# Altium integrated library Altera APEX 20KE.IntLib: 235 symbols (part 28 of 49)
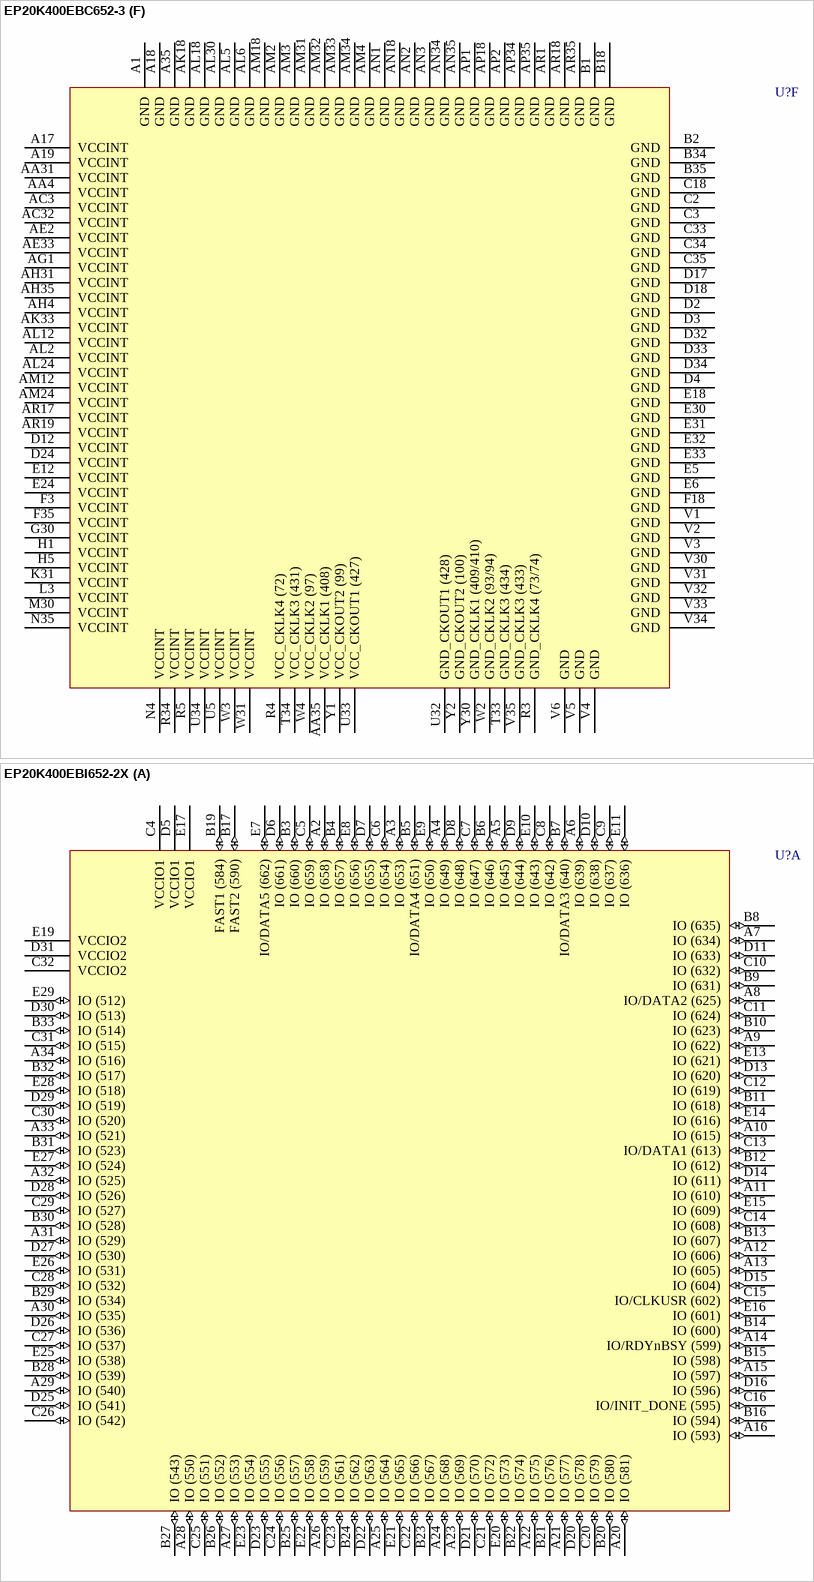
[diagram p426: symbols EP20K400EBC652-3 to EP20K400EBI652-2X]

## EP20K400EBC652-3
designator U?
APEX 20K400E PLD, 652-Pin BGA, Commercial Grade, Speed Grade 3; Published: 17-Jul-2002; LatestRevisionDate: 13-Apr-2006; LatestRevisionNote: IPC-7351 Footprint Added.; DatasheetVersion: Mar-2004; PackageVersion: ver14.1, Oct-2005; PackageReference: BGA652; Publisher: Altium Limited; PackageDescription: 652-Ball Ball Grid Array (BGA652); Code_JEDEC: MO-192-BAW-1; ComponentLink1Description: Manufacturer Link; ComponentLink1URL: http://www.altera.com/products/devices/apex/apx-index.html; ComponentLink2Description: Datasheet; ComponentLink2URL: http://www.altera.com/literature/ds/apex.pdf
footprint BGA652 (BGA, 652-Leads, Body 45x45mm, Pitch 1.27mm)
3D model EP20K400E-BGA652TD (652-Ball Ball Grid Array (BGA652))
part A pins: A2 IO (658) (io), A3 IO (653) (io), A4 IO (649) (io), A5 IO (645) (io), A6 IO (639) (io), A7 IO (634) (io), A8 IO/DATA2 (625) (io), A9 IO (622) (io), A10 IO (615) (io), A11 IO (610) (io), A12 IO (606) (io), A13 IO (605) (io), A14 IO/RDYnBSY (599) (io), A15 IO (597) (io), A16 IO (593) (io), A20 IO (581) (io), A21 IO (577) (io), A22 IO (575) (io), A23 IO (569) (io), A24 IO (568) (io), A25 IO (564) (io), A26 IO (559) (io), A27 IO (553) (io), A28 IO (550) (io), A29 IO (540) (io), A30 IO (535) (io), A31 IO (529) (io), A32 IO (525) (io), A33 IO (521) (io), A34 IO (516) (io), B3 IO (660) (io), B4 IO (657) (io), B5 IO/DATA4 (651) (io), B6 IO (646) (io), B7 IO/DATA3 (640) (io), B8 IO (635) (io), B9 IO (631) (io), B10 IO (623) (io), B11 IO (618) (io), B12 IO (612) (io), B13 IO (607) (io), B14 IO (600) (io), B15 IO (598) (io), B16 IO (594) (io), B17 FAST2 (590) (io), B19 FAST1 (584) (io), B20 IO (580) (io), B21 IO (576) (io), B22 IO (574) (io), B23 IO (567) (io), B24 IO (562) (io), B25 IO (557) (io), B26 IO (552) (io), B27 IO (543) (io), B28 IO (539) (io), B29 IO (534) (io), B30 IO (528) (io), B31 IO (523) (io), B32 IO (517) (io), B33 IO (514) (io), C4 VCCIO1 (power), C5 IO (659) (io), C6 IO (654) (io), C7 IO (647) (io), C8 IO (642) (io), C9 IO (637) (io), C10 IO (632) (io), C11 IO (624) (io), C12 IO (619) (io), C13 IO/DATA1 (613) (io), C14 IO (608) (io), C15 IO/CLKUSR (602) (io), C16 IO/INIT_DONE (595) (io), C20 IO (579) (io), C21 IO (572) (io), C22 IO (566) (io), C23 IO (561) (io), C24 IO (556) (io), C25 IO (551) (io), C26 IO (542) (io), C27 IO (537) (io), C28 IO (532) (io), C29 IO (527) (io), C30 IO (520) (io), C31 IO (515) (io), C32 VCCIO2 (power), D5 VCCIO1 (power), D6 IO (661) (io), D7 IO (655) (io), D8 IO (648) (io), D9 IO (644) (io), D10 IO (638) (io), D11 IO (633) (io), D13 IO (620) (io), D14 IO (611) (io), D15 IO (604) (io), D16 IO (596) (io), D20 IO (578) (io), D21 IO (570) (io), D22 IO (563) (io), D23 IO (555) (io), D25 IO (541) (io), D26 IO (536) (io), D27 IO (530) (io), D28 IO (526) (io), D29 IO (519) (io), D30 IO (513) (io), D31 VCCIO2 (power), E7 IO/DATA5 (662) (io), E8 IO (656) (io), E9 IO (650) (io), E10 IO (643) (io), E11 IO (636) (io), E13 IO (621) (io), E14 IO (616) (io), E15 IO (609) (io), E16 IO (601) (io), E17 VCCIO1 (power), E19 VCCIO2 (power), E20 IO (573) (io), E21 IO (565) (io), E22 IO (558) (io), E23 IO (554) (io), E25 IO (538) (io), E26 IO (531) (io), E27 IO (524) (io), E28 IO (518) (io), E29 IO (512) (io)
part B pins: AA30 IO/LOCK1 (402) (io), AA32 IO (405) (io), AA33 IO (406) (io), AA34 IO (407) (io), AB30 IO (395) (io), AB31 IO (396) (io), AB32 IO (398) (io), AB33 IO (399) (io), AB34 IO (400) (io), AB35 IO (401) (io), AC30 IO (388) (io), AC31 IO (389) (io), AC33 IO (392) (io), AC34 IO (393) (io), AC35 IO (394) (io), AD30 IO (381) (io), AD31 IO (382) (io), AD32 IO (383) (io), AD33 IO (385) (io), AD34 IO (386) (io), AD35 IO (387) (io), AE30 IO (374) (io), AE31 IO (375) (io), AE32 IO (376) (io), AE34 IO (379) (io), AE35 IO (380) (io), AF30 IO (367) (io), AF31 IO (368) (io), AF32 IO (369) (io), AF33 IO (370) (io), AF34 IO (372) (io), AF35 IO (373) (io), AG30 IO (359) (io), AG31 IO (360) (io), AG32 IO (361) (io), AG33 IO (362) (io), AG34 IO (363) (io), AG35 IO (366) (io), AH30 IO (350) (io), AH32 IO (353) (io), AH33 IO (354) (io), AH34 IO (356) (io), AJ30 IO (342) (io), AJ31 IO (343) (io), AJ32 IO (344) (io), AJ33 IO (346) (io), AJ34 IO (349) (io), AJ35 IO (357) (io), AK30 IO (335) (io), AK31 IO (336) (io), AK32 IO (337) (io), AK34 IO (347) (io), AK35 IO (355) (io), AL31 VCCIO4 (power), AL32 VCCIO4 (power), AL33 IO (334) (io), AL34 IO (340) (io), AL35 IO (348) (io), AM35 IO (341) (io), D35 IO (506) (io), E34 IO (507) (io), E35 IO (499) (io), F30 VCCIO3 (power), F31 VCCIO3 (power), F32 IO (509) (io), F33 IO (508) (io), F34 IO (500) (io), G31 IO (503) (io), G32 IO (502) (io), G33 IO (501) (io), G34 IO (497) (io), G35 IO/LVDSRX16n (489) (io), H30 IO (496) (io), H31 IO (495) (io), H32 IO (494) (io), H33 IO (493) (io), H34 IO/LVDSRX16p (490) (io), H35 IO (482) (io), J30 IO (488) (io), J31 IO/LVDSRX15n (487) (io), J32 IO/LVDSRX15p (486) (io), J33 IO/LVDSRX14p (484) (io), J34 IO/LVDSRX14n (483) (io), J35 IO/LVDSRX13n (481) (io), K30 IO/LVDSRX13p (480) (io), K32 IO/LVDSRX12p (477) (io), K33 IO/LVDSRX12n (476) (io), K34 IO (475) (io), K35 IO/LVDSRX11n (474) (io), L30 IO/LVDSRX11p (473) (io), L31 IO/LVDSRX10p (471) (io), L32 IO/LVDSRX10n (470) (io), L33 IO (469) (io), L34 IO/LVDSRX09n (468) (io), L35 IO/LVDSRX09p (467) (io), M31 IO/LVDSRX08p (464) (io), M32 IO/LVDSRX08n (463) (io), M33 IO (462) (io), M34 IO/LVDSRX07n (461) (io), M35 IO/LVDSRX07p (460) (io), N30 IO/LVDSRX06p (458) (io), N31 IO/LVDSRX06n (457) (io), N32 IO (456) (io), N33 IO/LVDSRX05n (455) (io), N34 IO/LVDSRX05p (454) (io), P30 IO/LVDSRX04p (451) (io), P31 IO/LVDSRX04n (450) (io), P32 IO (449) (io), P33 IO/LVDSRX03n (448) (io), P34 IO/LVDSRX03p (447) (io), P35 IO/LVDSRX02p (445) (io), R30 IO/LVDSRX02n (444) (io), R31 IO/LOCK3 (443) (io), R32 IO/LVDSRX01n (442) (io), R33 IO/LVDSRX01p (441) (io), R35 IO (438) (io), T30 IO (437) (io), T31 IO/LVDSRXINCLK1n (436) (io), T32 IO/LVDSRXINCLK1p (435) (io), T35 IO/CLKLK_OUT1n (430) (io), U30 VCCIO3 (power), W30 VCCIO4 (power), W34 CLK1p (422) (in), Y31 IO/CLKLK_FB1n (412) (io), Y33 IO/CLK3n (414) (io), Y34 CLK3p (415) (in), Y35 IO/CLK1n (416) (io)
part C pins: AL7 IO (182) (io), AL8 IO (188) (io), AL9 IO (194) (io), AL10 IO (201) (io), AL11 IO (208) (io), AL13 IO (223) (io), AL14 IO (227) (io), AL15 IO (234) (io), AL16 IO (242) (io), AL17 VCCIO6 (power), AL19 VCCIO5 (power), AL20 IO (271) (io), AL21 IO (279) (io), AL22 IO (286) (io), AL23 IO (290) (io), AL25 IO (305) (io), AL26 IO (312) (io), AL27 IO (319) (io), AL28 IO (325) (io), AL29 IO (331) (io), AM5 VCCIO6 (power), AM6 IO (183) (io), AM7 IO (189) (io), AM8 IO (196) (io), AM9 IO (200) (io), AM10 IO (206) (io), AM11 IO (211) (io), AM13 IO (224) (io), AM14 IO (232) (io), AM15 IO (239) (io), AM16 IO/LVDSDESKEW (248) (io), AM20 IO (266) (io), AM21 IO (274) (io), AM22 IO (281) (io), AM23 IO (289) (io), AM25 IO (302) (io), AM26 IO (307) (io), AM27 IO (313) (io), AM28 IO (317) (io), AM29 IO (324) (io), AM30 IO (330) (io), AN4 VCCIO6 (power), AN5 IO (185) (io), AN6 IO (190) (io), AN7 IO (197) (io), AN8 IO (202) (io), AN9 IO (207) (io), AN10 IO (212) (io), AN11 IO (220) (io), AN12 IO (225) (io), AN13 IO (230) (io), AN14 IO (235) (io), AN15 IO (241) (io), AN16 IO (249) (io), AN20 IO (265) (io), AN21 IO (272) (io), AN22 IO (278) (io), AN23 IO (283) (io), AN24 IO (288) (io), AN25 IO (293) (io), AN26 IO (301) (io), AN27 IO (306) (io), AN28 IO (311) (io), AN29 IO (316) (io), AN30 IO (323) (io), AN31 IO (328) (io), AN32 VCCIO5 (power), AN33 VCCIO5 (power), AP3 IO (184) (io), AP4 IO (187) (io), AP5 IO (193) (io), AP6 IO (198) (io), AP7 IO (204) (io), AP8 IO (209) (io), AP9 IO (213) (io), AP10 IO (221) (io), AP11 IO (226) (io), AP12 IO (231) (io), AP13 IO (236) (io), AP14 IO (244) (io), AP15 IO (246) (io), AP16 IO (250) (io), AP17 FAST4 (254) (io), AP19 FAST3 (260) (io), AP20 IO (264) (io), AP21 IO (268) (io), AP22 IO (270) (io), AP23 IO (277) (io), AP24 IO (282) (io), AP25 IO (287) (io), AP26 IO (292) (io), AP27 IO (300) (io), AP28 IO (304) (io), AP29 IO (309) (io), AP30 IO (315) (io), AP31 IO (320) (io), AP32 IO (326) (io), AP33 IO (329) (io), AR2 IO (186) (io), AR3 IO (191) (io), AR4 IO (195) (io), AR5 IO (199) (io), AR6 IO (205) (io), AR7 IO (210) (io), AR8 IO (219) (io), AR9 IO (222) (io), AR10 IO (228) (io), AR11 IO (233) (io), AR12 IO (237) (io), AR13 IO (238) (io), AR14 IO (245) (io), AR15 IO (247) (io), AR16 IO (251) (io), AR20 IO (263) (io), AR21 IO (267) (io), AR22 IO (269) (io), AR23 IO (275) (io), AR24 IO (276) (io), AR25 IO (280) (io), AR26 IO (285) (io), AR27 IO (291) (io), AR28 IO (294) (io), AR29 IO (303) (io), AR30 IO (308) (io), AR31 IO (314) (io), AR32 IO (318) (io), AR33 IO (322) (io), AR34 IO (327) (io)
part D pins: AA1 IO (119) (io), AA2 IO/LVDSTXOUTCLK1n (107) (io), AA3 IO/LVDSTXOUTCLK1p (108) (io), AA5 IO/LVDSTX01p (111) (io), AA6 IO/LVDSTX01n (112) (io), AB1 IO (113) (io), AB2 IO/LVDSTX02n (114) (io), AB3 IO/LVDSTX02p (115) (io), AB4 IO/LVDSTX03p (117) (io), AB5 IO/LVDSTX03n (118) (io), AB6 IO/LOCK2 (106) (io), AC1 IO/LVDSTX04n (120) (io), AC2 IO/LVDSTX04p (121) (io), AC4 IO/LVDSTX05p (124) (io), AC5 IO/LVDSTX05n (125) (io), AC6 IO/LOCK4 (126) (io), AD1 IO/LVDSTX06n (127) (io), AD2 IO/LVDSTX06p (128) (io), AD3 IO/LVDSTX07p (130) (io), AD4 IO/LVDSTX07n (131) (io), AD5 IO (132) (io), AD6 IO/LVDSTX08n (133) (io), AE1 IO/LVDSTX08p (134) (io), AE3 IO/LVDSTX09p (137) (io), AE4 IO/LVDSTX09n (138) (io), AE5 IO (139) (io), AE6 IO/LVDSTX10n (140) (io), AF1 IO/LVDSTX10p (141) (io), AF2 IO/LVDSTX11p (143) (io), AF3 IO/LVDSTX11n (144) (io), AF4 IO (145) (io), AF5 IO/LVDSTX12n (146) (io), AF6 IO/LVDSTX12p (147) (io), AG2 IO/LVDSTX13n (151) (io), AG3 IO (152) (io), AG4 IO/LVDSTX14n (153) (io), AG5 IO/LVDSTX14p (154) (io), AG6 IO/LVDSTX15p (156) (io), AH1 IO/LVDSTX13p (150) (io), AH2 IO (158) (io), AH3 IO/LVDSTX16p (160) (io), AH5 IO (163) (io), AH6 IO (164) (io), AJ1 IO/LVDSTX15n (157) (io), AJ2 IO (165) (io), AJ3 IO (169) (io), AJ4 IO (170) (io), AJ5 IO (171) (io), AJ6 IO (172) (io), AK1 IO/LVDSTX16n (159) (io), AK2 IO (167) (io), AK3 IO (176) (io), AK4 IO (177) (io), AK5 IO (178) (io), AK6 IO (179) (io), AL1 IO (166) (io), AL3 VCCIO7 (power), AL4 VCCIO7 (power), AM1 IO (173) (io), C1 IO (4) (io), D1 IO (7) (io), E1 IO (15) (io), E2 IO (8) (io), E3 VCCIO8 (power), E4 VCCIO8 (power), F1 IO (22) (io), F2 IO (14) (io), F4 IO (3) (io), F5 IO (2) (io), F6 IO (1) (io), G1 IO (24) (io), G2 IO (16) (io), G3 IO (13) (io), G4 IO (11) (io), G5 IO (10) (io), G6 IO (9) (io), H2 IO (23) (io), H3 IO (21) (io), H4 IO (20) (io), H6 IO (17) (io), J1 IO (33) (io), J2 IO (30) (io), J3 IO (29) (io), J4 IO (28) (io), J5 IO (27) (io), J6 IO (26) (io), K1 IO (40) (io), K2 IO (39) (io), K3 IO (37) (io), K4 IO (36) (io), K5 IO (35) (io), K6 IO (34) (io), L1 IO (47) (io), L2 IO (46) (io), L4 IO (43) (io), L5 IO (42) (io), L6 IO/DATA6 (41) (io), M1 IO/nWS (54) (io), M2 IO (53) (io), M3 IO (52) (io), M4 IO (50) (io), M5 IO (49) (io), M6 IO/DATA7 (48) (io), N1 IO/nRS (61) (io), N2 IO (60) (io), N3 IO (59) (io), N5 IO (56) (io), N6 IO (55) (io), P1 IO (68) (io), P2 IO/nCS (67) (io), P3 IO (66) (io), P4 IO (65) (io), P5 IO (63) (io), P6 IO (62) (io), R1 IO (76) (io), R2 IO/CS (75) (io), R6 IO (69) (io), T1 IO/CLK2n (84) (io), T2 CLK4p (83) (in), T3 IO/CLK4n (82) (io), T5 IO/CLKLK_FB2n (80) (io), T6 IO/DEV_CLRn (77) (io), U2 CLK2p (89) (in), U6 VCCIO8 (power), W5 IO/LVDSTXINCLK1p (104) (io), W6 VCCIO7 (power), Y4 IO/CLKLK_OUT2n (102) (io), Y5 IO/DEV_OE (98) (io), Y6 IO/LVDSTXINCLK1n (105) (io)
part E pins: AM17 CONF_DONE (252) (io), AM19 TMS (262) (in), AN17 nSTATUS (253) (io), AN19 TCK (261) (in), C17 TDO (591) (out), C19 nCEO (583) (out), D19 TRST (582) (in), T4 CLKLK_FB2p (81) (in), U1 nCE (90) (in), U3 DCLK (88) (in), U4 DATA0 (87) (in), U31 CLKLK_OUT1p (429) (out), U35 MSEL0 (424) (in), W1 TDI (91) (in), W32 nCONFIG (420) (in), W33 CLKLK_ENA (421) (in), W35 MSEL1 (423) (in), Y3 CLKLK_OUT2p (101) (out), Y32 CLKLK_FB1p (413) (in)
part F pins: A1 GND (power), A17 VCCINT (power), A18 GND (power), A19 VCCINT (power), A35 GND (power), AA4 VCCINT (power), AA31 VCCINT (power), AA35 VCC_CKLK1 (408) (power), AC3 VCCINT (power), AC32 VCCINT (power), AE2 VCCINT (power), AE33 VCCINT (power), AG1 VCCINT (power), AH4 VCCINT (power), AH31 VCCINT (power), AH35 VCCINT (power), AK18 GND (power), AK33 VCCINT (power), AL2 VCCINT (power), AL5 GND (power), AL6 GND (power), AL12 VCCINT (power), AL18 GND (power), AL24 VCCINT (power), AL30 GND (power), AM2 GND (power), AM3 GND (power), AM4 GND (power), AM12 VCCINT (power), AM18 GND (power), AM24 VCCINT (power), AM31 GND (power), AM32 GND (power), AM33 GND (power), AM34 GND (power), AN1 GND (power), AN2 GND (power), AN3 GND (power), AN18 GND (power), AN34 GND (power), AN35 GND (power), AP1 GND (power), AP2 GND (power), AP18 GND (power), AP34 GND (power), AP35 GND (power), AR1 GND (power), AR17 VCCINT (power), AR18 GND (power), AR19 VCCINT (power), AR35 GND (power), B1 GND (power), B2 GND (power), B18 GND (power), B34 GND (power), B35 GND (power), C2 GND (power), C3 GND (power), C18 GND (power), C33 GND (power), C34 GND (power), C35 GND (power), D2 GND (power), D3 GND (power), D4 GND (power), D12 VCCINT (power), D17 GND (power), D18 GND (power), D24 VCCINT (power), D32 GND (power), D33 GND (power), D34 GND (power), E5 GND (power), E6 GND (power), E12 VCCINT (power), E18 GND (power), E24 VCCINT (power), E30 GND (power), E31 GND (power), E32 GND (power), E33 GND (power), F3 VCCINT (power), F18 GND (power), F35 VCCINT (power), G30 VCCINT (power), H1 VCCINT (power), H5 VCCINT (power), K31 VCCINT (power), L3 VCCINT (power), M30 VCCINT (power), N4 VCCINT (power), N35 VCCINT (power), R3 GND_CKLK4 (73/74) (power), R4 VCC_CKLK4 (72) (power), R5 VCCINT (power), R34 VCCINT (power), T33 GND_CKLK3 (434) (power), T34 VCC_CKLK3 (431) (power), U5 VCCINT (power), U32 GND_CKOUT1 (428) (power), U33 VCC_CKOUT1 (427) (power), U34 VCCINT (power), V1 GND (power), V2 GND (power), V3 GND (power), V4 GND (power), V5 GND (power), V6 GND (power), V30 GND (power), V31 GND (power), V32 GND (power), V33 GND (power), V34 GND (power), V35 GND_CKLK3 (433) (power), W2 GND_CKLK2 (93/94) (power), W3 VCCINT (power), W4 VCC_CKLK2 (97) (power), W31 VCCINT (power), Y1 VCC_CKOUT2 (99) (power), Y2 GND_CKOUT2 (100) (power), Y30 GND_CKLK1 (409/410) (power)

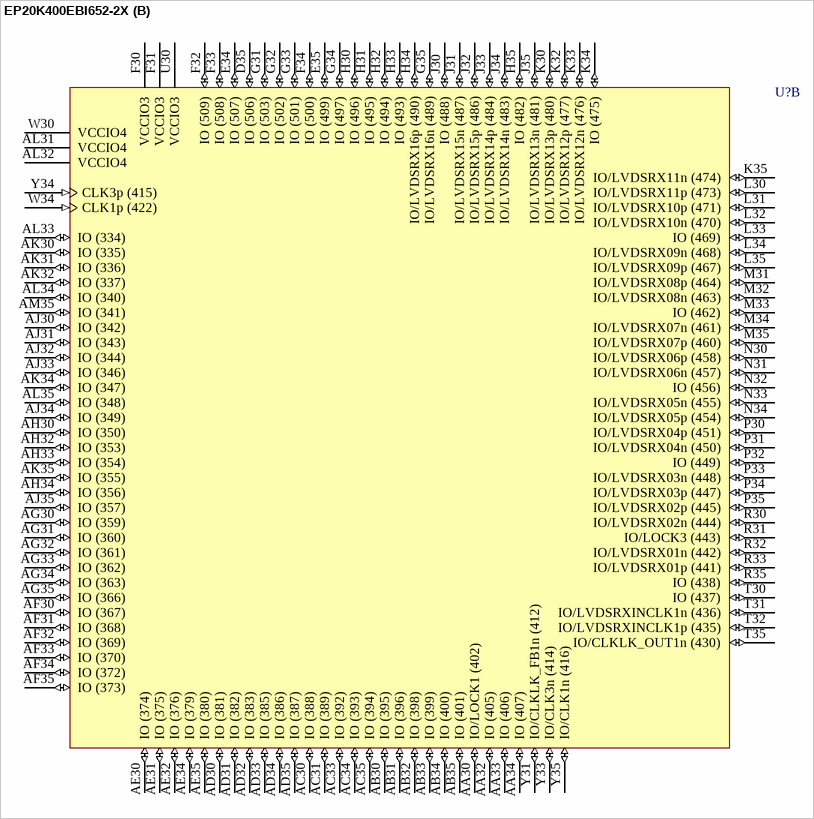
[diagram p273: symbol EP20K400EBI652-2X]

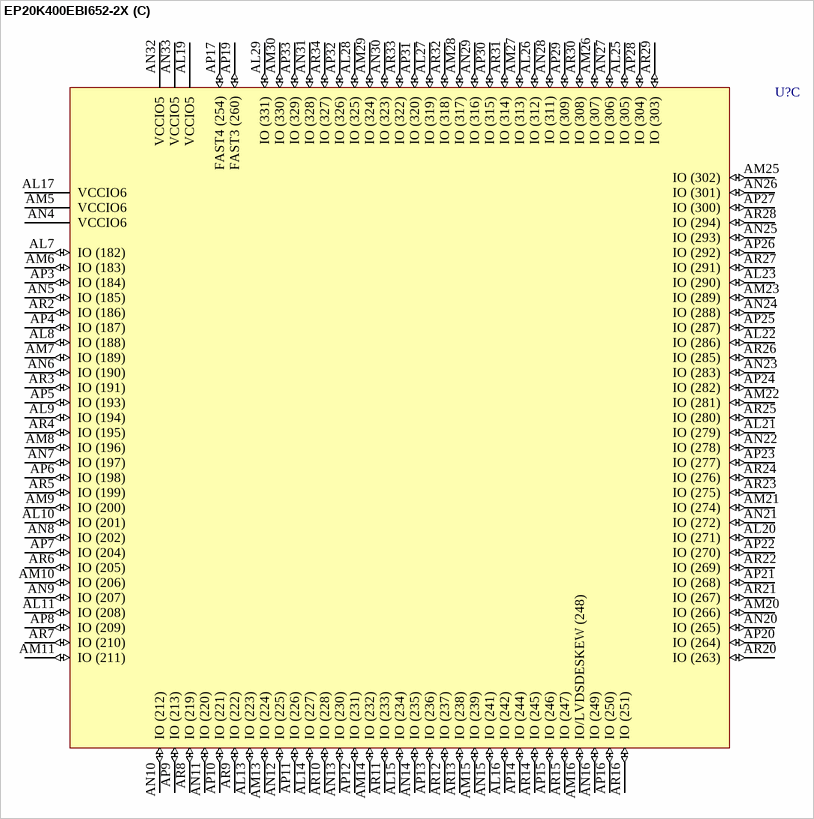
[diagram p274: symbol EP20K400EBI652-2X]

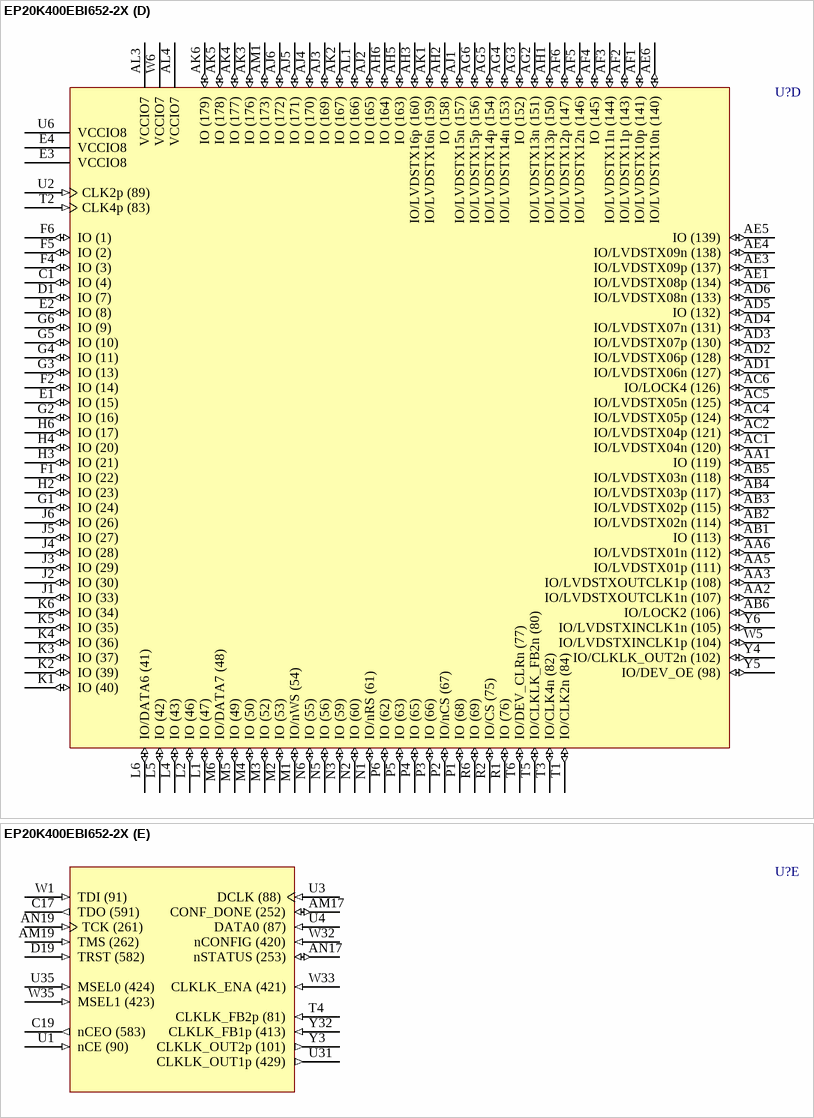
[diagram p275: symbol EP20K400EBI652-2X]

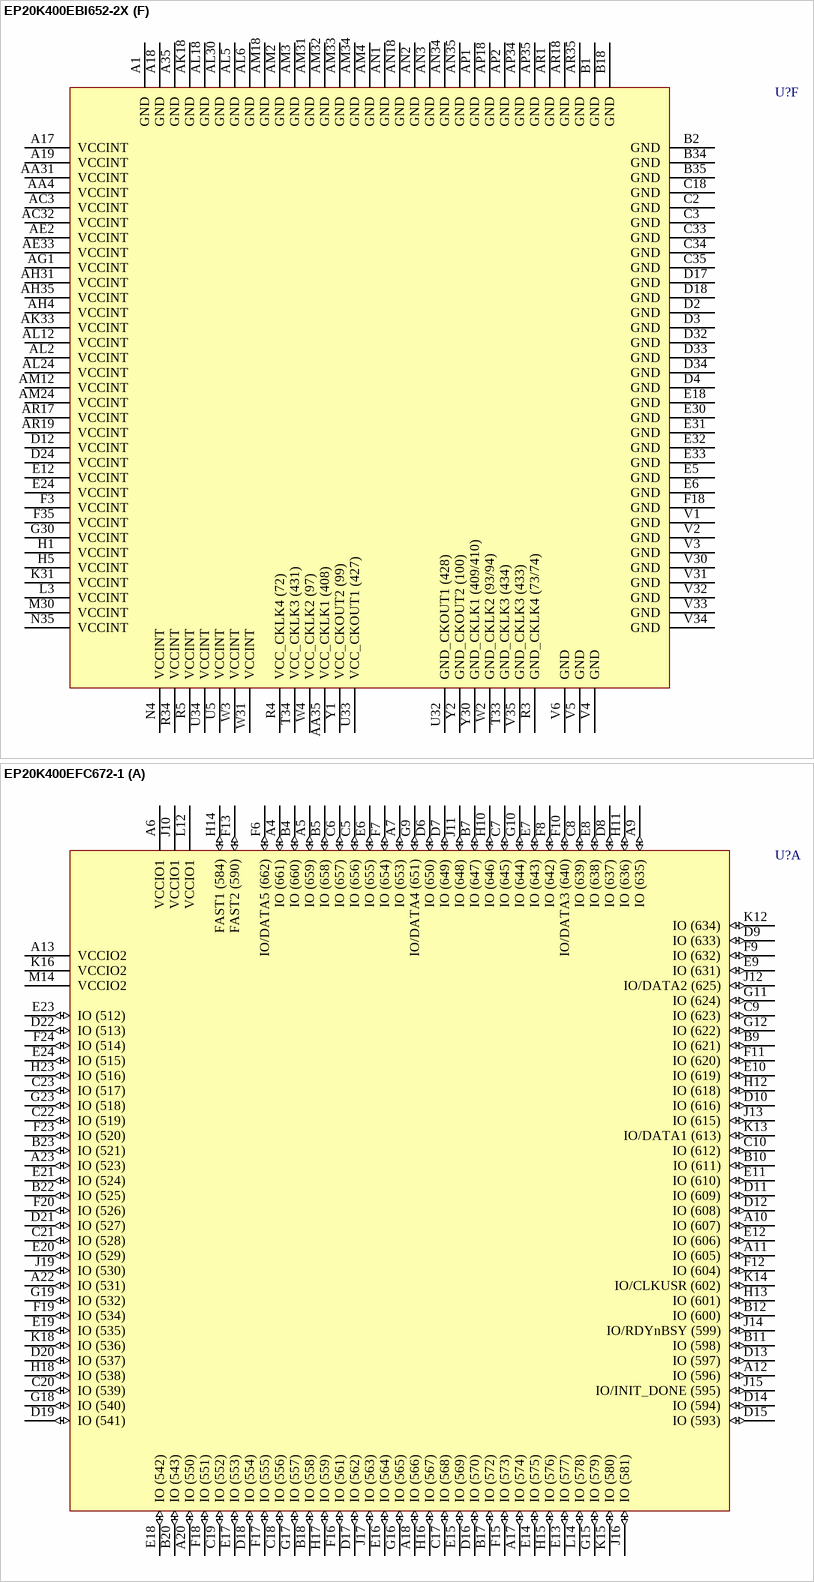
[diagram p276: symbols EP20K400EBI652-2X to EP20K400EFC672-1]

## EP20K400EBI652-2X
designator U?
APEX 20K400E PLD with PLLs and LVDS, 652-Pin BGA, Industrial Grade, Speed Grade 2; Published: 17-Jul-2002; LatestRevisionDate: 13-Apr-2006; LatestRevisionNote: IPC-7351 Footprint Added.; DatasheetVersion: Mar-2004; PackageVersion: ver14.1, Oct-2005; PackageReference: BGA652; Publisher: Altium Limited; PackageDescription: 652-Ball Ball Grid Array (BGA652); Code_JEDEC: MO-192-BAW-1; ComponentLink1Description: Manufacturer Link; ComponentLink1URL: http://www.altera.com/products/devices/apex/apx-index.html; ComponentLink2Description: Datasheet; ComponentLink2URL: http://www.altera.com/literature/ds/apex.pdf
footprint BGA652 (BGA, 652-Leads, Body 45x45mm, Pitch 1.27mm)
3D model EP20K400E-BGA652TD (652-Ball Ball Grid Array (BGA652))
part A pins: A2 IO (658) (io), A3 IO (653) (io), A4 IO (649) (io), A5 IO (645) (io), A6 IO (639) (io), A7 IO (634) (io), A8 IO/DATA2 (625) (io), A9 IO (622) (io), A10 IO (615) (io), A11 IO (610) (io), A12 IO (606) (io), A13 IO (605) (io), A14 IO/RDYnBSY (599) (io), A15 IO (597) (io), A16 IO (593) (io), A20 IO (581) (io), A21 IO (577) (io), A22 IO (575) (io), A23 IO (569) (io), A24 IO (568) (io), A25 IO (564) (io), A26 IO (559) (io), A27 IO (553) (io), A28 IO (550) (io), A29 IO (540) (io), A30 IO (535) (io), A31 IO (529) (io), A32 IO (525) (io), A33 IO (521) (io), A34 IO (516) (io), B3 IO (660) (io), B4 IO (657) (io), B5 IO/DATA4 (651) (io), B6 IO (646) (io), B7 IO/DATA3 (640) (io), B8 IO (635) (io), B9 IO (631) (io), B10 IO (623) (io), B11 IO (618) (io), B12 IO (612) (io), B13 IO (607) (io), B14 IO (600) (io), B15 IO (598) (io), B16 IO (594) (io), B17 FAST2 (590) (io), B19 FAST1 (584) (io), B20 IO (580) (io), B21 IO (576) (io), B22 IO (574) (io), B23 IO (567) (io), B24 IO (562) (io), B25 IO (557) (io), B26 IO (552) (io), B27 IO (543) (io), B28 IO (539) (io), B29 IO (534) (io), B30 IO (528) (io), B31 IO (523) (io), B32 IO (517) (io), B33 IO (514) (io), C4 VCCIO1 (power), C5 IO (659) (io), C6 IO (654) (io), C7 IO (647) (io), C8 IO (642) (io), C9 IO (637) (io), C10 IO (632) (io), C11 IO (624) (io), C12 IO (619) (io), C13 IO/DATA1 (613) (io), C14 IO (608) (io), C15 IO/CLKUSR (602) (io), C16 IO/INIT_DONE (595) (io), C20 IO (579) (io), C21 IO (572) (io), C22 IO (566) (io), C23 IO (561) (io), C24 IO (556) (io), C25 IO (551) (io), C26 IO (542) (io), C27 IO (537) (io), C28 IO (532) (io), C29 IO (527) (io), C30 IO (520) (io), C31 IO (515) (io), C32 VCCIO2 (power), D5 VCCIO1 (power), D6 IO (661) (io), D7 IO (655) (io), D8 IO (648) (io), D9 IO (644) (io), D10 IO (638) (io), D11 IO (633) (io), D13 IO (620) (io), D14 IO (611) (io), D15 IO (604) (io), D16 IO (596) (io), D20 IO (578) (io), D21 IO (570) (io), D22 IO (563) (io), D23 IO (555) (io), D25 IO (541) (io), D26 IO (536) (io), D27 IO (530) (io), D28 IO (526) (io), D29 IO (519) (io), D30 IO (513) (io), D31 VCCIO2 (power), E7 IO/DATA5 (662) (io), E8 IO (656) (io), E9 IO (650) (io), E10 IO (643) (io), E11 IO (636) (io), E13 IO (621) (io), E14 IO (616) (io), E15 IO (609) (io), E16 IO (601) (io), E17 VCCIO1 (power), E19 VCCIO2 (power), E20 IO (573) (io), E21 IO (565) (io), E22 IO (558) (io), E23 IO (554) (io), E25 IO (538) (io), E26 IO (531) (io), E27 IO (524) (io), E28 IO (518) (io), E29 IO (512) (io)
part B pins: AA30 IO/LOCK1 (402) (io), AA32 IO (405) (io), AA33 IO (406) (io), AA34 IO (407) (io), AB30 IO (395) (io), AB31 IO (396) (io), AB32 IO (398) (io), AB33 IO (399) (io), AB34 IO (400) (io), AB35 IO (401) (io), AC30 IO (388) (io), AC31 IO (389) (io), AC33 IO (392) (io), AC34 IO (393) (io), AC35 IO (394) (io), AD30 IO (381) (io), AD31 IO (382) (io), AD32 IO (383) (io), AD33 IO (385) (io), AD34 IO (386) (io), AD35 IO (387) (io), AE30 IO (374) (io), AE31 IO (375) (io), AE32 IO (376) (io), AE34 IO (379) (io), AE35 IO (380) (io), AF30 IO (367) (io), AF31 IO (368) (io), AF32 IO (369) (io), AF33 IO (370) (io), AF34 IO (372) (io), AF35 IO (373) (io), AG30 IO (359) (io), AG31 IO (360) (io), AG32 IO (361) (io), AG33 IO (362) (io), AG34 IO (363) (io), AG35 IO (366) (io), AH30 IO (350) (io), AH32 IO (353) (io), AH33 IO (354) (io), AH34 IO (356) (io), AJ30 IO (342) (io), AJ31 IO (343) (io), AJ32 IO (344) (io), AJ33 IO (346) (io), AJ34 IO (349) (io), AJ35 IO (357) (io), AK30 IO (335) (io), AK31 IO (336) (io), AK32 IO (337) (io), AK34 IO (347) (io), AK35 IO (355) (io), AL31 VCCIO4 (power), AL32 VCCIO4 (power), AL33 IO (334) (io), AL34 IO (340) (io), AL35 IO (348) (io), AM35 IO (341) (io), D35 IO (506) (io), E34 IO (507) (io), E35 IO (499) (io), F30 VCCIO3 (power), F31 VCCIO3 (power), F32 IO (509) (io), F33 IO (508) (io), F34 IO (500) (io), G31 IO (503) (io), G32 IO (502) (io), G33 IO (501) (io), G34 IO (497) (io), G35 IO/LVDSRX16n (489) (io), H30 IO (496) (io), H31 IO (495) (io), H32 IO (494) (io), H33 IO (493) (io), H34 IO/LVDSRX16p (490) (io), H35 IO (482) (io), J30 IO (488) (io), J31 IO/LVDSRX15n (487) (io), J32 IO/LVDSRX15p (486) (io), J33 IO/LVDSRX14p (484) (io), J34 IO/LVDSRX14n (483) (io), J35 IO/LVDSRX13n (481) (io), K30 IO/LVDSRX13p (480) (io), K32 IO/LVDSRX12p (477) (io), K33 IO/LVDSRX12n (476) (io), K34 IO (475) (io), K35 IO/LVDSRX11n (474) (io), L30 IO/LVDSRX11p (473) (io), L31 IO/LVDSRX10p (471) (io), L32 IO/LVDSRX10n (470) (io), L33 IO (469) (io), L34 IO/LVDSRX09n (468) (io), L35 IO/LVDSRX09p (467) (io), M31 IO/LVDSRX08p (464) (io), M32 IO/LVDSRX08n (463) (io), M33 IO (462) (io), M34 IO/LVDSRX07n (461) (io), M35 IO/LVDSRX07p (460) (io), N30 IO/LVDSRX06p (458) (io), N31 IO/LVDSRX06n (457) (io), N32 IO (456) (io), N33 IO/LVDSRX05n (455) (io), N34 IO/LVDSRX05p (454) (io), P30 IO/LVDSRX04p (451) (io), P31 IO/LVDSRX04n (450) (io), P32 IO (449) (io), P33 IO/LVDSRX03n (448) (io), P34 IO/LVDSRX03p (447) (io), P35 IO/LVDSRX02p (445) (io), R30 IO/LVDSRX02n (444) (io), R31 IO/LOCK3 (443) (io), R32 IO/LVDSRX01n (442) (io), R33 IO/LVDSRX01p (441) (io), R35 IO (438) (io), T30 IO (437) (io), T31 IO/LVDSRXINCLK1n (436) (io), T32 IO/LVDSRXINCLK1p (435) (io), T35 IO/CLKLK_OUT1n (430) (io), U30 VCCIO3 (power), W30 VCCIO4 (power), W34 CLK1p (422) (in), Y31 IO/CLKLK_FB1n (412) (io), Y33 IO/CLK3n (414) (io), Y34 CLK3p (415) (in), Y35 IO/CLK1n (416) (io)
part C pins: AL7 IO (182) (io), AL8 IO (188) (io), AL9 IO (194) (io), AL10 IO (201) (io), AL11 IO (208) (io), AL13 IO (223) (io), AL14 IO (227) (io), AL15 IO (234) (io), AL16 IO (242) (io), AL17 VCCIO6 (power), AL19 VCCIO5 (power), AL20 IO (271) (io), AL21 IO (279) (io), AL22 IO (286) (io), AL23 IO (290) (io), AL25 IO (305) (io), AL26 IO (312) (io), AL27 IO (319) (io), AL28 IO (325) (io), AL29 IO (331) (io), AM5 VCCIO6 (power), AM6 IO (183) (io), AM7 IO (189) (io), AM8 IO (196) (io), AM9 IO (200) (io), AM10 IO (206) (io), AM11 IO (211) (io), AM13 IO (224) (io), AM14 IO (232) (io), AM15 IO (239) (io), AM16 IO/LVDSDESKEW (248) (io), AM20 IO (266) (io), AM21 IO (274) (io), AM22 IO (281) (io), AM23 IO (289) (io), AM25 IO (302) (io), AM26 IO (307) (io), AM27 IO (313) (io), AM28 IO (317) (io), AM29 IO (324) (io), AM30 IO (330) (io), AN4 VCCIO6 (power), AN5 IO (185) (io), AN6 IO (190) (io), AN7 IO (197) (io), AN8 IO (202) (io), AN9 IO (207) (io), AN10 IO (212) (io), AN11 IO (220) (io), AN12 IO (225) (io), AN13 IO (230) (io), AN14 IO (235) (io), AN15 IO (241) (io), AN16 IO (249) (io), AN20 IO (265) (io), AN21 IO (272) (io), AN22 IO (278) (io), AN23 IO (283) (io), AN24 IO (288) (io), AN25 IO (293) (io), AN26 IO (301) (io), AN27 IO (306) (io), AN28 IO (311) (io), AN29 IO (316) (io), AN30 IO (323) (io), AN31 IO (328) (io), AN32 VCCIO5 (power), AN33 VCCIO5 (power), AP3 IO (184) (io), AP4 IO (187) (io), AP5 IO (193) (io), AP6 IO (198) (io), AP7 IO (204) (io), AP8 IO (209) (io), AP9 IO (213) (io), AP10 IO (221) (io), AP11 IO (226) (io), AP12 IO (231) (io), AP13 IO (236) (io), AP14 IO (244) (io), AP15 IO (246) (io), AP16 IO (250) (io), AP17 FAST4 (254) (io), AP19 FAST3 (260) (io), AP20 IO (264) (io), AP21 IO (268) (io), AP22 IO (270) (io), AP23 IO (277) (io), AP24 IO (282) (io), AP25 IO (287) (io), AP26 IO (292) (io), AP27 IO (300) (io), AP28 IO (304) (io), AP29 IO (309) (io), AP30 IO (315) (io), AP31 IO (320) (io), AP32 IO (326) (io), AP33 IO (329) (io), AR2 IO (186) (io), AR3 IO (191) (io), AR4 IO (195) (io), AR5 IO (199) (io), AR6 IO (205) (io), AR7 IO (210) (io), AR8 IO (219) (io), AR9 IO (222) (io), AR10 IO (228) (io), AR11 IO (233) (io), AR12 IO (237) (io), AR13 IO (238) (io), AR14 IO (245) (io), AR15 IO (247) (io), AR16 IO (251) (io), AR20 IO (263) (io), AR21 IO (267) (io), AR22 IO (269) (io), AR23 IO (275) (io), AR24 IO (276) (io), AR25 IO (280) (io), AR26 IO (285) (io), AR27 IO (291) (io), AR28 IO (294) (io), AR29 IO (303) (io), AR30 IO (308) (io), AR31 IO (314) (io), AR32 IO (318) (io), AR33 IO (322) (io), AR34 IO (327) (io)
part D pins: AA1 IO (119) (io), AA2 IO/LVDSTXOUTCLK1n (107) (io), AA3 IO/LVDSTXOUTCLK1p (108) (io), AA5 IO/LVDSTX01p (111) (io), AA6 IO/LVDSTX01n (112) (io), AB1 IO (113) (io), AB2 IO/LVDSTX02n (114) (io), AB3 IO/LVDSTX02p (115) (io), AB4 IO/LVDSTX03p (117) (io), AB5 IO/LVDSTX03n (118) (io), AB6 IO/LOCK2 (106) (io), AC1 IO/LVDSTX04n (120) (io), AC2 IO/LVDSTX04p (121) (io), AC4 IO/LVDSTX05p (124) (io), AC5 IO/LVDSTX05n (125) (io), AC6 IO/LOCK4 (126) (io), AD1 IO/LVDSTX06n (127) (io), AD2 IO/LVDSTX06p (128) (io), AD3 IO/LVDSTX07p (130) (io), AD4 IO/LVDSTX07n (131) (io), AD5 IO (132) (io), AD6 IO/LVDSTX08n (133) (io), AE1 IO/LVDSTX08p (134) (io), AE3 IO/LVDSTX09p (137) (io), AE4 IO/LVDSTX09n (138) (io), AE5 IO (139) (io), AE6 IO/LVDSTX10n (140) (io), AF1 IO/LVDSTX10p (141) (io), AF2 IO/LVDSTX11p (143) (io), AF3 IO/LVDSTX11n (144) (io), AF4 IO (145) (io), AF5 IO/LVDSTX12n (146) (io), AF6 IO/LVDSTX12p (147) (io), AG2 IO/LVDSTX13n (151) (io), AG3 IO (152) (io), AG4 IO/LVDSTX14n (153) (io), AG5 IO/LVDSTX14p (154) (io), AG6 IO/LVDSTX15p (156) (io), AH1 IO/LVDSTX13p (150) (io), AH2 IO (158) (io), AH3 IO/LVDSTX16p (160) (io), AH5 IO (163) (io), AH6 IO (164) (io), AJ1 IO/LVDSTX15n (157) (io), AJ2 IO (165) (io), AJ3 IO (169) (io), AJ4 IO (170) (io), AJ5 IO (171) (io), AJ6 IO (172) (io), AK1 IO/LVDSTX16n (159) (io), AK2 IO (167) (io), AK3 IO (176) (io), AK4 IO (177) (io), AK5 IO (178) (io), AK6 IO (179) (io), AL1 IO (166) (io), AL3 VCCIO7 (power), AL4 VCCIO7 (power), AM1 IO (173) (io), C1 IO (4) (io), D1 IO (7) (io), E1 IO (15) (io), E2 IO (8) (io), E3 VCCIO8 (power), E4 VCCIO8 (power), F1 IO (22) (io), F2 IO (14) (io), F4 IO (3) (io), F5 IO (2) (io), F6 IO (1) (io), G1 IO (24) (io), G2 IO (16) (io), G3 IO (13) (io), G4 IO (11) (io), G5 IO (10) (io), G6 IO (9) (io), H2 IO (23) (io), H3 IO (21) (io), H4 IO (20) (io), H6 IO (17) (io), J1 IO (33) (io), J2 IO (30) (io), J3 IO (29) (io), J4 IO (28) (io), J5 IO (27) (io), J6 IO (26) (io), K1 IO (40) (io), K2 IO (39) (io), K3 IO (37) (io), K4 IO (36) (io), K5 IO (35) (io), K6 IO (34) (io), L1 IO (47) (io), L2 IO (46) (io), L4 IO (43) (io), L5 IO (42) (io), L6 IO/DATA6 (41) (io), M1 IO/nWS (54) (io), M2 IO (53) (io), M3 IO (52) (io), M4 IO (50) (io), M5 IO (49) (io), M6 IO/DATA7 (48) (io), N1 IO/nRS (61) (io), N2 IO (60) (io), N3 IO (59) (io), N5 IO (56) (io), N6 IO (55) (io), P1 IO (68) (io), P2 IO/nCS (67) (io), P3 IO (66) (io), P4 IO (65) (io), P5 IO (63) (io), P6 IO (62) (io), R1 IO (76) (io), R2 IO/CS (75) (io), R6 IO (69) (io), T1 IO/CLK2n (84) (io), T2 CLK4p (83) (in), T3 IO/CLK4n (82) (io), T5 IO/CLKLK_FB2n (80) (io), T6 IO/DEV_CLRn (77) (io), U2 CLK2p (89) (in), U6 VCCIO8 (power), W5 IO/LVDSTXINCLK1p (104) (io), W6 VCCIO7 (power), Y4 IO/CLKLK_OUT2n (102) (io), Y5 IO/DEV_OE (98) (io), Y6 IO/LVDSTXINCLK1n (105) (io)
part E pins: AM17 CONF_DONE (252) (io), AM19 TMS (262) (in), AN17 nSTATUS (253) (io), AN19 TCK (261) (in), C17 TDO (591) (out), C19 nCEO (583) (out), D19 TRST (582) (in), T4 CLKLK_FB2p (81) (in), U1 nCE (90) (in), U3 DCLK (88) (in), U4 DATA0 (87) (in), U31 CLKLK_OUT1p (429) (out), U35 MSEL0 (424) (in), W1 TDI (91) (in), W32 nCONFIG (420) (in), W33 CLKLK_ENA (421) (in), W35 MSEL1 (423) (in), Y3 CLKLK_OUT2p (101) (out), Y32 CLKLK_FB1p (413) (in)
part F pins: A1 GND (power), A17 VCCINT (power), A18 GND (power), A19 VCCINT (power), A35 GND (power), AA4 VCCINT (power), AA31 VCCINT (power), AA35 VCC_CKLK1 (408) (power), AC3 VCCINT (power), AC32 VCCINT (power), AE2 VCCINT (power), AE33 VCCINT (power), AG1 VCCINT (power), AH4 VCCINT (power), AH31 VCCINT (power), AH35 VCCINT (power), AK18 GND (power), AK33 VCCINT (power), AL2 VCCINT (power), AL5 GND (power), AL6 GND (power), AL12 VCCINT (power), AL18 GND (power), AL24 VCCINT (power), AL30 GND (power), AM2 GND (power), AM3 GND (power), AM4 GND (power), AM12 VCCINT (power), AM18 GND (power), AM24 VCCINT (power), AM31 GND (power), AM32 GND (power), AM33 GND (power), AM34 GND (power), AN1 GND (power), AN2 GND (power), AN3 GND (power), AN18 GND (power), AN34 GND (power), AN35 GND (power), AP1 GND (power), AP2 GND (power), AP18 GND (power), AP34 GND (power), AP35 GND (power), AR1 GND (power), AR17 VCCINT (power), AR18 GND (power), AR19 VCCINT (power), AR35 GND (power), B1 GND (power), B2 GND (power), B18 GND (power), B34 GND (power), B35 GND (power), C2 GND (power), C3 GND (power), C18 GND (power), C33 GND (power), C34 GND (power), C35 GND (power), D2 GND (power), D3 GND (power), D4 GND (power), D12 VCCINT (power), D17 GND (power), D18 GND (power), D24 VCCINT (power), D32 GND (power), D33 GND (power), D34 GND (power), E5 GND (power), E6 GND (power), E12 VCCINT (power), E18 GND (power), E24 VCCINT (power), E30 GND (power), E31 GND (power), E32 GND (power), E33 GND (power), F3 VCCINT (power), F18 GND (power), F35 VCCINT (power), G30 VCCINT (power), H1 VCCINT (power), H5 VCCINT (power), K31 VCCINT (power), L3 VCCINT (power), M30 VCCINT (power), N4 VCCINT (power), N35 VCCINT (power), R3 GND_CKLK4 (73/74) (power), R4 VCC_CKLK4 (72) (power), R5 VCCINT (power), R34 VCCINT (power), T33 GND_CKLK3 (434) (power), T34 VCC_CKLK3 (431) (power), U5 VCCINT (power), U32 GND_CKOUT1 (428) (power), U33 VCC_CKOUT1 (427) (power), U34 VCCINT (power), V1 GND (power), V2 GND (power), V3 GND (power), V4 GND (power), V5 GND (power), V6 GND (power), V30 GND (power), V31 GND (power), V32 GND (power), V33 GND (power), V34 GND (power), V35 GND_CKLK3 (433) (power), W2 GND_CKLK2 (93/94) (power), W3 VCCINT (power), W4 VCC_CKLK2 (97) (power), W31 VCCINT (power), Y1 VCC_CKOUT2 (99) (power), Y2 GND_CKOUT2 (100) (power), Y30 GND_CKLK1 (409/410) (power)

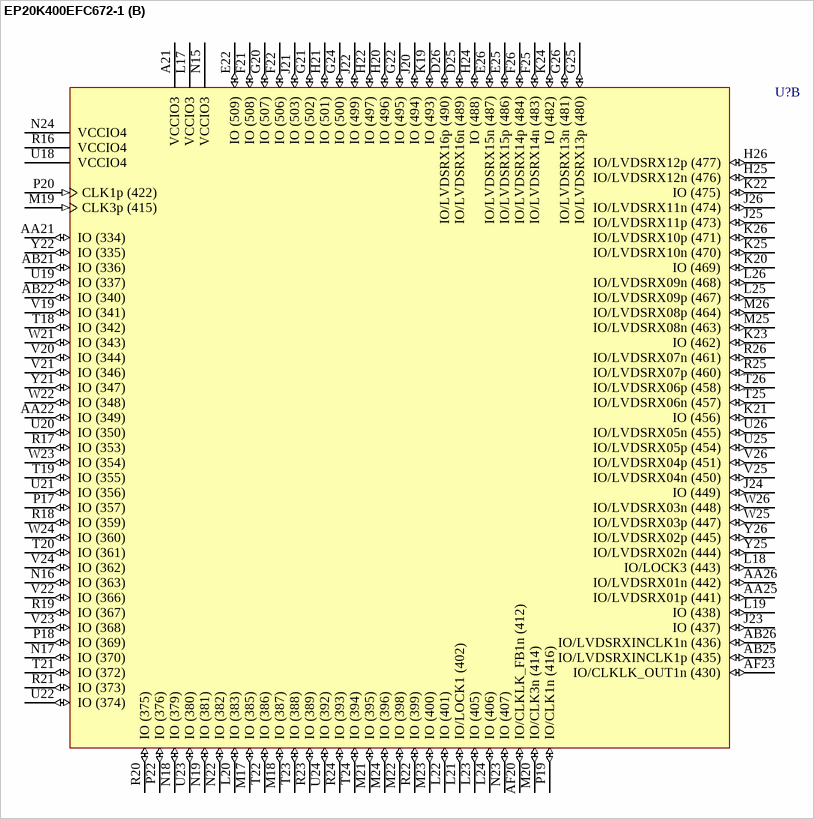
[diagram p277: symbol EP20K400EFC672-1]

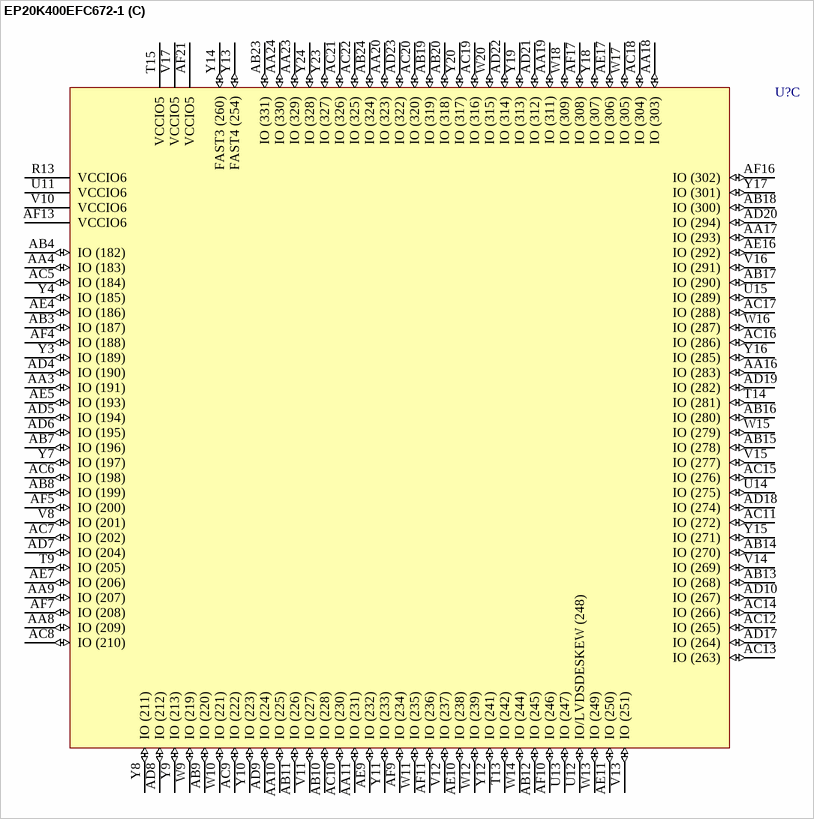
[diagram p278: symbol EP20K400EFC672-1]

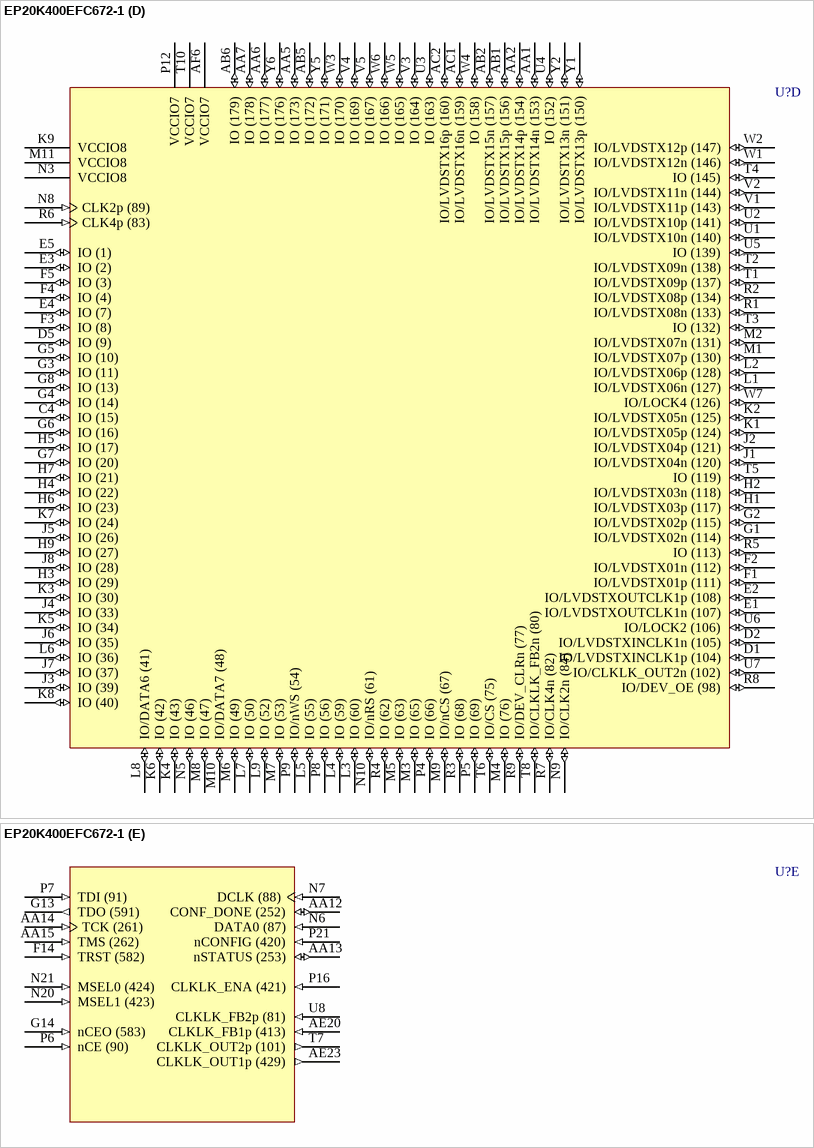
[diagram p279: symbol EP20K400EFC672-1]

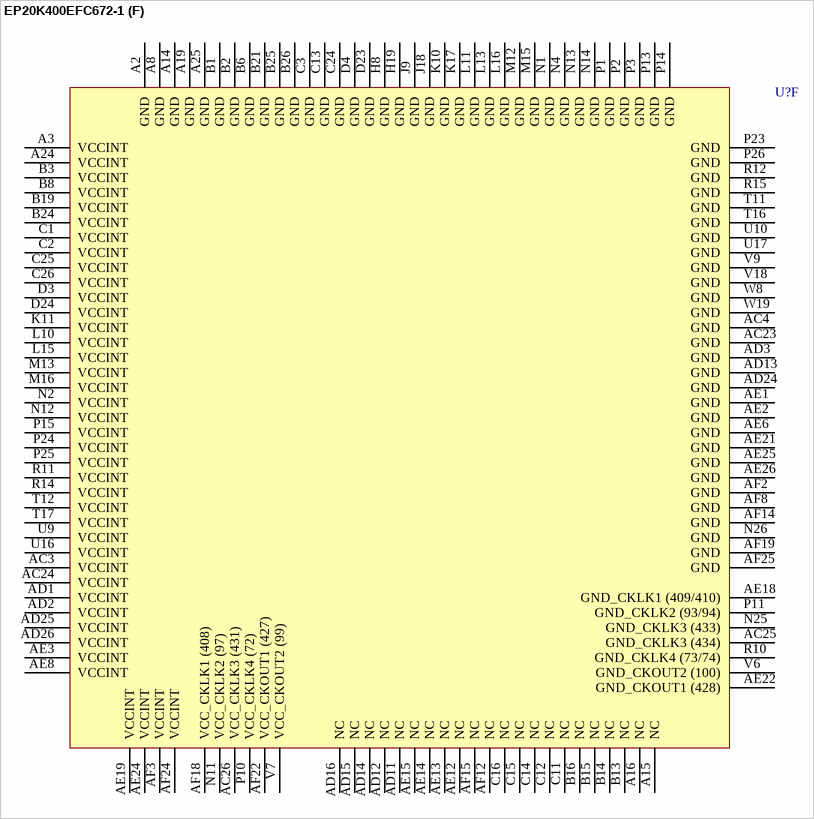
[diagram p280: symbol EP20K400EFC672-1]

## EP20K400EFC672-1
designator U?
APEX 20K400E PLD, 672-Pin FBGA, Commercial Grade, Speed Grade 1; Published: 17-Jul-2002; LatestRevisionDate: 13-Apr-2006; LatestRevisionNote: IPC-7351 Footprint Added.; DatasheetVersion: Mar-2004; PackageVersion: ver14.1, Oct-2005; PackageReference: FBGA672; Publisher: Altium Limited; PackageDescription: 672-Ball FineLine Ball Grid Array (FBGA672) - Flip Chip; Code_JEDEC: MS-034-AAL-1; ComponentLink1Description: Manufacturer Link; ComponentLink1URL: http://www.altera.com/products/devices/apex/apx-index.html; ComponentLink2Description: Datasheet; ComponentLink2URL: http://www.altera.com/literature/ds/apex.pdf
footprint FBGA672 (BGA, 672-Leads, Body 27x27mm, Pitch 1mm)
3D model EP20K400E-FBGA672T (672-Ball FineLine Ball Grid Array (FBGA672) - Flip Chip)
part A pins: A4 IO (661) (io), A5 IO (659) (io), A6 VCCIO1 (power), A7 IO (653) (io), A9 IO (635) (io), A10 IO (607) (io), A11 IO (605) (io), A12 IO (596) (io), A13 VCCIO2 (power), A17 IO (574) (io), A18 IO (566) (io), A20 IO (550) (io), A22 IO (531) (io), A23 IO (523) (io), B4 IO (660) (io), B5 IO (658) (io), B7 IO (647) (io), B9 IO (621) (io), B10 IO (611) (io), B11 IO (598) (io), B12 IO (600) (io), B17 IO (572) (io), B18 IO (558) (io), B20 IO (543) (io), B22 IO (525) (io), B23 IO (521) (io), C5 IO (656) (io), C6 IO (657) (io), C7 IO (645) (io), C8 IO (639) (io), C9 IO (623) (io), C10 IO (612) (io), C17 IO (568) (io), C18 IO (556) (io), C19 IO (552) (io), C20 IO (539) (io), C21 IO (528) (io), C22 IO (519) (io), C23 IO (517) (io), D6 IO (650) (io), D7 IO (649) (io), D8 IO (637) (io), D9 IO (633) (io), D10 IO (616) (io), D11 IO (609) (io), D12 IO (608) (io), D13 IO (597) (io), D14 IO (594) (io), D15 IO (593) (io), D16 IO (570) (io), D17 IO (562) (io), D18 IO (554) (io), D19 IO (541) (io), D20 IO (537) (io), D21 IO (527) (io), D22 IO (513) (io), E6 IO (655) (io), E7 IO (643) (io), E8 IO (638) (io), E9 IO (631) (io), E10 IO (619) (io), E11 IO (610) (io), E12 IO (606) (io), E13 IO (577) (io), E14 IO (575) (io), E15 IO (569) (io), E16 IO (564) (io), E17 IO (553) (io), E18 IO (542) (io), E19 IO (535) (io), E20 IO (529) (io), E21 IO (524) (io), E23 IO (512) (io), E24 IO (515) (io), F6 IO/DATA5 (662) (io), F7 IO (654) (io), F8 IO (642) (io), F9 IO (632) (io), F10 IO/DATA3 (640) (io), F11 IO (620) (io), F12 IO (604) (io), F13 FAST2 (590) (io), F15 IO (573) (io), F16 IO (561) (io), F17 IO (555) (io), F18 IO (551) (io), F19 IO (534) (io), F20 IO (526) (io), F23 IO (520) (io), F24 IO (514) (io), G9 IO/DATA4 (651) (io), G10 IO (644) (io), G11 IO (624) (io), G12 IO (622) (io), G15 IO (579) (io), G16 IO (565) (io), G17 IO (557) (io), G18 IO (540) (io), G19 IO (532) (io), G23 IO (518) (io), H10 IO (646) (io), H11 IO (636) (io), H12 IO (618) (io), H13 IO (601) (io), H14 FAST1 (584) (io), H15 IO (576) (io), H16 IO (567) (io), H17 IO (559) (io), H18 IO (538) (io), H23 IO (516) (io), J10 VCCIO1 (power), J11 IO (648) (io), J12 IO/DATA2 (625) (io), J13 IO (615) (io), J14 IO/RDYnBSY (599) (io), J15 IO/INIT_DONE (595) (io), J16 IO (581) (io), J17 IO (563) (io), J19 IO (530) (io), K12 IO (634) (io), K13 IO/DATA1 (613) (io), K14 IO/CLKUSR (602) (io), K15 IO (580) (io), K16 VCCIO2 (power), K18 IO (536) (io), L12 VCCIO1 (power), L14 IO (578) (io), M14 VCCIO2 (power)
part B pins: A21 VCCIO3 (power), AA21 IO (334) (io), AA22 IO (349) (io), AA25 IO/LVDSRX01p (441) (io), AA26 IO/LVDSRX01n (442) (io), AB21 IO (336) (io), AB22 IO (340) (io), AB25 IO/LVDSRXINCLK1p (435) (io), AB26 IO/LVDSRXINCLK1n (436) (io), AF20 IO/CLKLK_FB1n (412) (io), AF23 IO/CLKLK_OUT1n (430) (io), D25 IO/LVDSRX16n (489) (io), D26 IO/LVDSRX16p (490) (io), E22 IO (509) (io), E25 IO/LVDSRX15p (486) (io), E26 IO/LVDSRX15n (487) (io), F21 IO (508) (io), F22 IO (506) (io), F25 IO/LVDSRX14n (483) (io), F26 IO/LVDSRX14p (484) (io), G20 IO (507) (io), G21 IO (502) (io), G22 IO (495) (io), G24 IO (500) (io), G25 IO/LVDSRX13p (480) (io), G26 IO/LVDSRX13n (481) (io), H20 IO (496) (io), H21 IO (501) (io), H22 IO (497) (io), H24 IO (488) (io), H25 IO/LVDSRX12n (476) (io), H26 IO/LVDSRX12p (477) (io), J20 IO (494) (io), J21 IO (503) (io), J22 IO (499) (io), J23 IO (437) (io), J24 IO (449) (io), J25 IO/LVDSRX11p (473) (io), J26 IO/LVDSRX11n (474) (io), K19 IO (493) (io), K20 IO (469) (io), K21 IO (456) (io), K22 IO (475) (io), K23 IO (462) (io), K24 IO (482) (io), K25 IO/LVDSRX10n (470) (io), K26 IO/LVDSRX10p (471) (io), L17 VCCIO3 (power), L18 IO/LOCK3 (443) (io), L19 IO (438) (io), L20 IO (383) (io), L21 IO/LOCK1 (402) (io), L22 IO (401) (io), L23 IO (405) (io), L24 IO (406) (io), L25 IO/LVDSRX09p (467) (io), L26 IO/LVDSRX09n (468) (io), M17 IO (385) (io), M18 IO (387) (io), M19 CLK3p (415) (in), M20 IO/CLK3n (414) (io), M21 IO (395) (io), M22 IO (398) (io), M23 IO (400) (io), M24 IO (396) (io), M25 IO/LVDSRX08n (463) (io), M26 IO/LVDSRX08p (464) (io), N15 VCCIO3 (power), N16 IO (363) (io), N17 IO (370) (io), N18 IO (379) (io), N19 IO (381) (io), N22 IO (382) (io), N23 IO (407) (io), N24 VCCIO4 (power), P17 IO (357) (io), P18 IO (369) (io), P19 IO/CLK1n (416) (io), P20 CLK1p (422) (in), P22 IO (376) (io), R16 VCCIO4 (power), R17 IO (353) (io), R18 IO (359) (io), R19 IO (367) (io), R20 IO (375) (io), R21 IO (373) (io), R22 IO (399) (io), R23 IO (389) (io), R24 IO (393) (io), R25 IO/LVDSRX07p (460) (io), R26 IO/LVDSRX07n (461) (io), T18 IO (342) (io), T19 IO (355) (io), T20 IO (361) (io), T21 IO (372) (io), T22 IO (386) (io), T23 IO (388) (io), T24 IO (394) (io), T25 IO/LVDSRX06n (457) (io), T26 IO/LVDSRX06p (458) (io), U18 VCCIO4 (power), U19 IO (337) (io), U20 IO (350) (io), U21 IO (356) (io), U22 IO (374) (io), U23 IO (380) (io), U24 IO (392) (io), U25 IO/LVDSRX05p (454) (io), U26 IO/LVDSRX05n (455) (io), V19 IO (341) (io), V20 IO (344) (io), V21 IO (346) (io), V22 IO (366) (io), V23 IO (368) (io), V24 IO (362) (io), V25 IO/LVDSRX04n (450) (io), V26 IO/LVDSRX04p (451) (io), W21 IO (343) (io), W22 IO (348) (io), W23 IO (354) (io), W24 IO (360) (io), W25 IO/LVDSRX03p (447) (io), W26 IO/LVDSRX03n (448) (io), Y21 IO (347) (io), Y22 IO (335) (io), Y25 IO/LVDSRX02n (444) (io), Y26 IO/LVDSRX02p (445) (io)
part C pins: AA3 IO (191) (io), AA4 IO (183) (io), AA8 IO (209) (io), AA9 IO (207) (io), AA10 IO (225) (io), AA11 IO (231) (io), AA16 IO (283) (io), AA17 IO (293) (io), AA18 IO (303) (io), AA19 IO (311) (io), AA20 IO (323) (io), AA23 IO (329) (io), AA24 IO (330) (io), AB3 IO (187) (io), AB4 IO (182) (io), AB7 IO (196) (io), AB8 IO (199) (io), AB9 IO (220) (io), AB10 IO (228) (io), AB11 IO (226) (io), AB12 IO (245) (io), AB13 IO (268) (io), AB14 IO (270) (io), AB15 IO (278) (io), AB16 IO (280) (io), AB17 IO (290) (io), AB18 IO (300) (io), AB19 IO (319) (io), AB20 IO (318) (io), AB23 IO (331) (io), AB24 IO (324) (io), AC5 IO (184) (io), AC6 IO (198) (io), AC7 IO (202) (io), AC8 IO (210) (io), AC9 IO (222) (io), AC10 IO (230) (io), AC11 IO (272) (io), AC12 IO (265) (io), AC13 IO (263) (io), AC14 IO (266) (io), AC15 IO (276) (io), AC16 IO (286) (io), AC17 IO (288) (io), AC18 IO (304) (io), AC19 IO (316) (io), AC20 IO (320) (io), AC21 IO (326) (io), AC22 IO (325) (io), AD4 IO (190) (io), AD5 IO (194) (io), AD6 IO (195) (io), AD7 IO (204) (io), AD8 IO (212) (io), AD9 IO (224) (io), AD10 IO (267) (io), AD17 IO (264) (io), AD18 IO (274) (io), AD19 IO (282) (io), AD20 IO (294) (io), AD21 IO (312) (io), AD22 IO (314) (io), AD23 IO (322) (io), AE4 IO (186) (io), AE5 IO (193) (io), AE7 IO (206) (io), AE9 IO (232) (io), AE10 IO (238) (io), AE11 IO (250) (io), AE16 IO (292) (io), AE17 IO (306) (io), AF4 IO (188) (io), AF5 IO (200) (io), AF7 IO (208) (io), AF9 IO (234) (io), AF10 IO (246) (io), AF11 IO (236) (io), AF13 VCCIO6 (power), AF16 IO (302) (io), AF17 IO (308) (io), AF21 VCCIO5 (power), R13 VCCIO6 (power), T9 IO (205) (io), T13 IO (242) (io), T14 IO (281) (io), T15 VCCIO5 (power), U11 VCCIO6 (power), U12 IO/LVDSDESKEW (248) (io), U13 IO (247) (io), U14 IO (275) (io), U15 IO (289) (io), V8 IO (201) (io), V10 VCCIO6 (power), V11 IO (227) (io), V12 IO (237) (io), V13 IO (251) (io), V14 IO (269) (io), V15 IO (277) (io), V16 IO (291) (io), V17 VCCIO5 (power), W9 IO (219) (io), W10 IO (221) (io), W11 IO (235) (io), W12 IO (239) (io), W13 IO (249) (io), W14 IO (244) (io), W15 IO (279) (io), W16 IO (287) (io), W17 IO (305) (io), W18 IO (309) (io), W20 IO (315) (io), Y3 IO (189) (io), Y4 IO (185) (io), Y7 IO (197) (io), Y8 IO (211) (io), Y9 IO (213) (io), Y10 IO (223) (io), Y11 IO (233) (io), Y12 IO (241) (io), Y13 FAST4 (254) (io), Y14 FAST3 (260) (io), Y15 IO (271) (io), Y16 IO (285) (io), Y17 IO (301) (io), Y18 IO (307) (io), Y19 IO (313) (io), Y20 IO (317) (io), Y23 IO (327) (io), Y24 IO (328) (io)
part D pins: AA1 IO/LVDSTX14n (153) (io), AA2 IO/LVDSTX14p (154) (io), AA5 IO (173) (io), AA6 IO (177) (io), AA7 IO (178) (io), AB1 IO/LVDSTX15p (156) (io), AB2 IO/LVDSTX15n (157) (io), AB5 IO (172) (io), AB6 IO (179) (io), AC1 IO/LVDSTX16n (159) (io), AC2 IO/LVDSTX16p (160) (io), AF6 VCCIO7 (power), C4 IO (15) (io), D1 IO/LVDSTXINCLK1p (104) (io), D2 IO/LVDSTXINCLK1n (105) (io), D5 IO (9) (io), E1 IO/LVDSTXOUTCLK1n (107) (io), E2 IO/LVDSTXOUTCLK1p (108) (io), E3 IO (2) (io), E4 IO (7) (io), E5 IO (1) (io), F1 IO/LVDSTX01p (111) (io), F2 IO/LVDSTX01n (112) (io), F3 IO (8) (io), F4 IO (4) (io), F5 IO (3) (io), G1 IO/LVDSTX02n (114) (io), G2 IO/LVDSTX02p (115) (io), G3 IO (11) (io), G4 IO (14) (io), G5 IO (10) (io), G6 IO (16) (io), G7 IO (20) (io), G8 IO (13) (io), H1 IO/LVDSTX03p (117) (io), H2 IO/LVDSTX03n (118) (io), H3 IO (29) (io), H4 IO (22) (io), H5 IO (17) (io), H6 IO (23) (io), H7 IO (21) (io), H9 IO (27) (io), J1 IO/LVDSTX04n (120) (io), J2 IO/LVDSTX04p (121) (io), J3 IO (39) (io), J4 IO (33) (io), J5 IO (26) (io), J6 IO (35) (io), J7 IO (37) (io), J8 IO (28) (io), K1 IO/LVDSTX05p (124) (io), K2 IO/LVDSTX05n (125) (io), K3 IO (30) (io), K4 IO (43) (io), K5 IO (34) (io), K6 IO (42) (io), K7 IO (24) (io), K8 IO (40) (io), K9 VCCIO8 (power), L1 IO/LVDSTX06n (127) (io), L2 IO/LVDSTX06p (128) (io), L3 IO (60) (io), L4 IO (59) (io), L5 IO (55) (io), L6 IO (36) (io), L7 IO (50) (io), L8 IO/DATA6 (41) (io), L9 IO (52) (io), M1 IO/LVDSTX07p (130) (io), M2 IO/LVDSTX07n (131) (io), M3 IO (65) (io), M4 IO (76) (io), M5 IO (63) (io), M6 IO (49) (io), M7 IO (53) (io), M8 IO (47) (io), M9 IO/nCS (67) (io), M10 IO/DATA7 (48) (io), M11 VCCIO8 (power), N3 VCCIO8 (power), N5 IO (46) (io), N8 CLK2p (89) (in), N9 IO/CLK2n (84) (io), N10 IO/nRS (61) (io), P4 IO (66) (io), P5 IO (69) (io), P8 IO (56) (io), P9 IO/nWS (54) (io), P12 VCCIO7 (power), R1 IO/LVDSTX08n (133) (io), R2 IO/LVDSTX08p (134) (io), R3 IO (68) (io), R4 IO (62) (io), R5 IO (113) (io), R6 CLK4p (83) (in), R7 IO/CLK4n (82) (io), R8 IO/DEV_OE (98) (io), R9 IO/DEV_CLRn (77) (io), T1 IO/LVDSTX09p (137) (io), T2 IO/LVDSTX09n (138) (io), T3 IO (132) (io), T4 IO (145) (io), T5 IO (119) (io), T6 IO/CS (75) (io), T8 IO/CLKLK_FB2n (80) (io), T10 VCCIO7 (power), U1 IO/LVDSTX10n (140) (io), U2 IO/LVDSTX10p (141) (io), U3 IO (163) (io), U4 IO (152) (io), U5 IO (139) (io), U6 IO/LOCK2 (106) (io), U7 IO/CLKLK_OUT2n (102) (io), V1 IO/LVDSTX11p (143) (io), V2 IO/LVDSTX11n (144) (io), V3 IO (164) (io), V4 IO (169) (io), V5 IO (167) (io), W1 IO/LVDSTX12n (146) (io), W2 IO/LVDSTX12p (147) (io), W3 IO (170) (io), W4 IO (158) (io), W5 IO (165) (io), W6 IO (166) (io), W7 IO/LOCK4 (126) (io), Y1 IO/LVDSTX13p (150) (io), Y2 IO/LVDSTX13n (151) (io), Y5 IO (171) (io), Y6 IO (176) (io)
part E pins: AA12 CONF_DONE (252) (io), AA13 nSTATUS (253) (io), AA14 TCK (261) (in), AA15 TMS (262) (in), AE20 CLKLK_FB1p (413) (in), AE23 CLKLK_OUT1p (429) (out), F14 TRST (582) (in), G13 TDO (591) (out), G14 nCEO (583) (in), N6 DATA0 (87) (in), N7 DCLK (88) (in), N20 MSEL1 (423) (in), N21 MSEL0 (424) (in), P6 nCE (90) (in), P7 TDI (91) (in), P16 CLKLK_ENA (421) (in), P21 nCONFIG (420) (in), T7 CLKLK_OUT2p (101) (out), U8 CLKLK_FB2p (81) (in)
part F pins: A2 GND (power), A3 VCCINT (power), A8 GND (power), A14 GND (power), A15 NC, A16 NC, A19 GND (power), A24 VCCINT (power), A25 GND (power), AC3 VCCINT (power), AC4 GND (power), AC23 GND (power), AC24 VCCINT (power), AC25 GND_CKLK3 (434) (power), AC26 VCC_CKLK3 (431) (power), AD1 VCCINT (power), AD2 VCCINT (power), AD3 GND (power), AD11 NC, AD12 NC, AD13 GND (power), AD14 NC, AD15 NC, AD16 NC, AD24 GND (power), AD25 VCCINT (power), AD26 VCCINT (power), AE1 GND (power), AE2 GND (power), AE3 VCCINT (power), AE6 GND (power), AE8 VCCINT (power), AE12 NC, AE13 NC, AE14 NC, AE15 NC, AE18 GND_CKLK1 (409/410) (power), AE19 VCCINT (power), AE21 GND (power), AE22 GND_CKOUT1 (428) (power), AE24 VCCINT (power), AE25 GND (power), AE26 GND (power), AF2 GND (power), AF3 VCCINT (power), AF8 GND (power), AF12 NC, AF14 GND (power), AF15 NC, AF18 VCC_CKLK1 (408) (power), AF19 GND (power), AF22 VCC_CKOUT1 (427) (power), AF24 VCCINT (power), AF25 GND (power), B1 GND (power), B2 GND (power), B3 VCCINT (power), B6 GND (power), B8 VCCINT (power), B13 NC, B14 NC, B15 NC, B16 NC, B19 VCCINT (power), B21 GND (power), B24 VCCINT (power), B25 GND (power), B26 GND (power), C1 VCCINT (power), C2 VCCINT (power), C3 GND (power), C11 NC, C12 NC, C13 GND (power), C14 NC, C15 NC, C16 NC, C24 GND (power), C25 VCCINT (power), C26 VCCINT (power), D3 VCCINT (power), D4 GND (power), D23 GND (power), D24 VCCINT (power), H8 GND (power), H19 GND (power), J9 GND (power), J18 GND (power), K10 GND (power), K11 VCCINT (power), K17 GND (power), L10 VCCINT (power), L11 GND (power), L13 GND (power), L15 VCCINT (power), L16 GND (power), M12 GND (power), M13 VCCINT (power), M15 GND (power), M16 VCCINT (power), N1 GND (power), N2 VCCINT (power), N4 GND (power), N11 VCC_CKLK2 (97) (power), N12 VCCINT (power), N13 GND (power), N14 GND (power), N25 GND_CKLK3 (433) (power), N26 GND (power), P1 GND (power), P2 GND (power), P3 GND (power), P10 VCC_CKLK4 (72) (power), P11 GND_CKLK2 (93/94) (power), P13 GND (power), P14 GND (power), P15 VCCINT (power), P23 GND (power), P24 VCCINT (power), P25 VCCINT (power), P26 GND (power), R10 GND_CKLK4 (73/74) (power), R11 VCCINT (power), R12 GND (power), R14 VCCINT (power), R15 GND (power), T11 GND (power), T12 VCCINT (power), T16 GND (power), T17 VCCINT (power), U9 VCCINT (power), U10 GND (power), U16 VCCINT (power), U17 GND (power), V6 GND_CKOUT2 (100) (power), V7 VCC_CKOUT2 (99) (power), V9 GND (power), V18 GND (power), W8 GND (power), W19 GND (power)

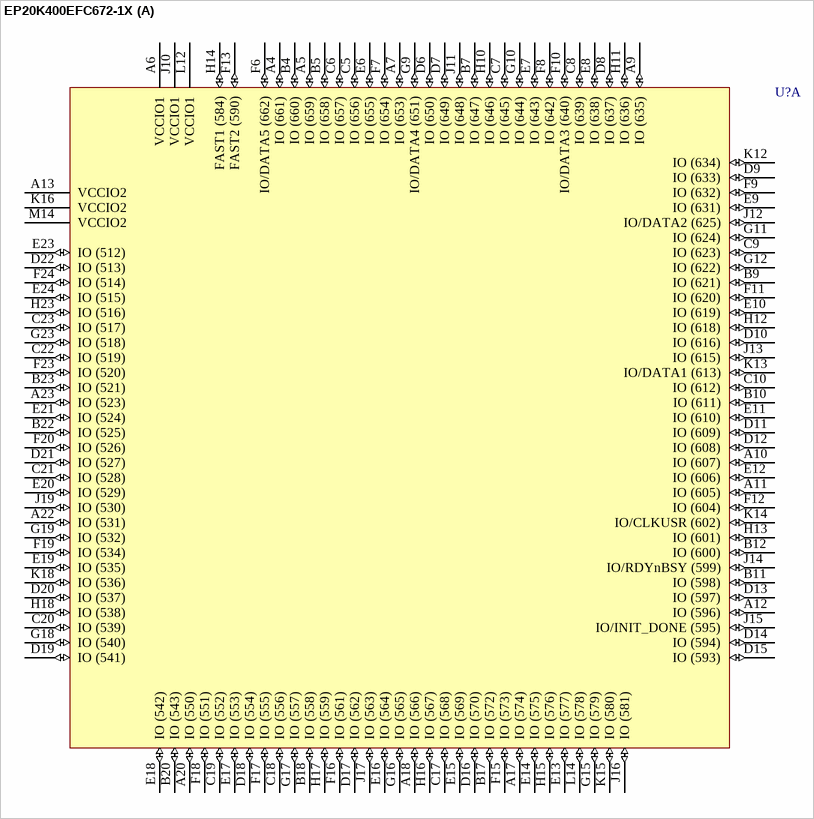
[diagram p281: symbol EP20K400EFC672-1X]

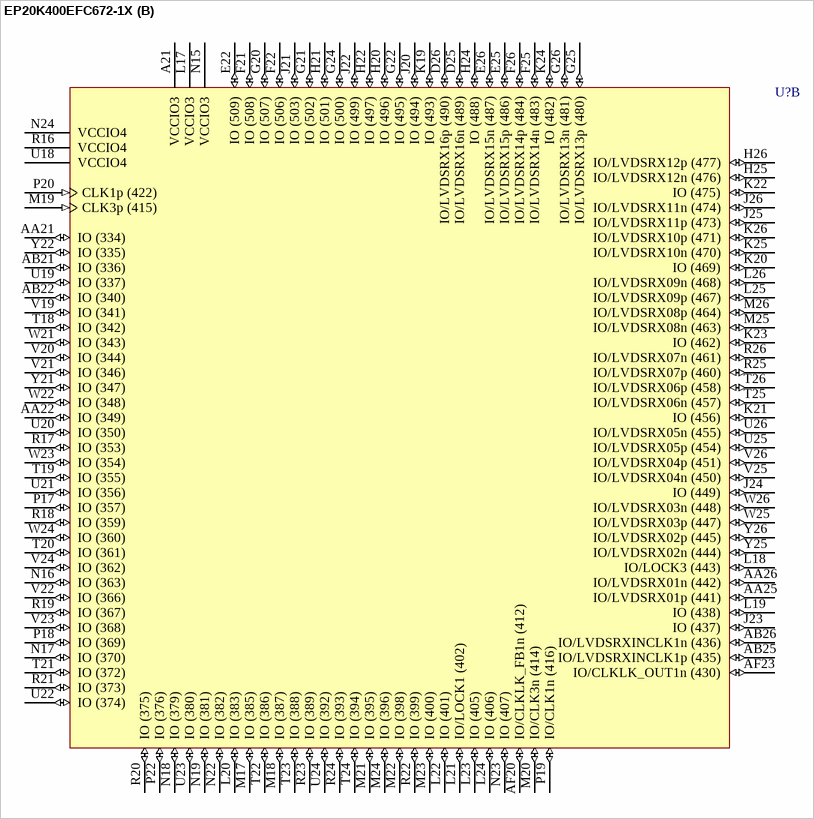
[diagram p282: symbol EP20K400EFC672-1X]

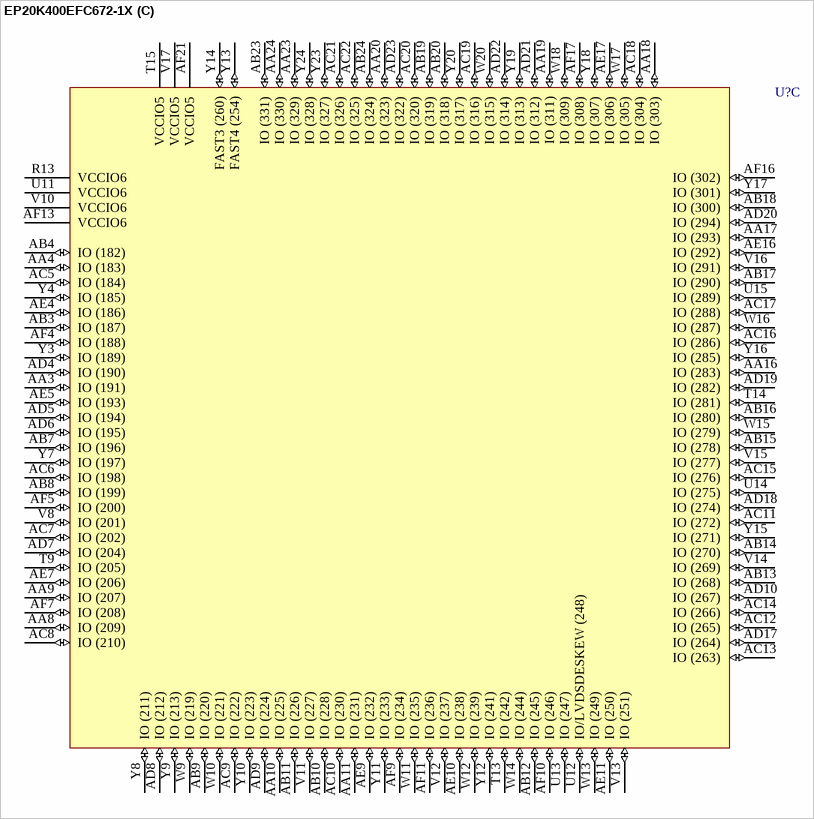
[diagram p283: symbol EP20K400EFC672-1X]

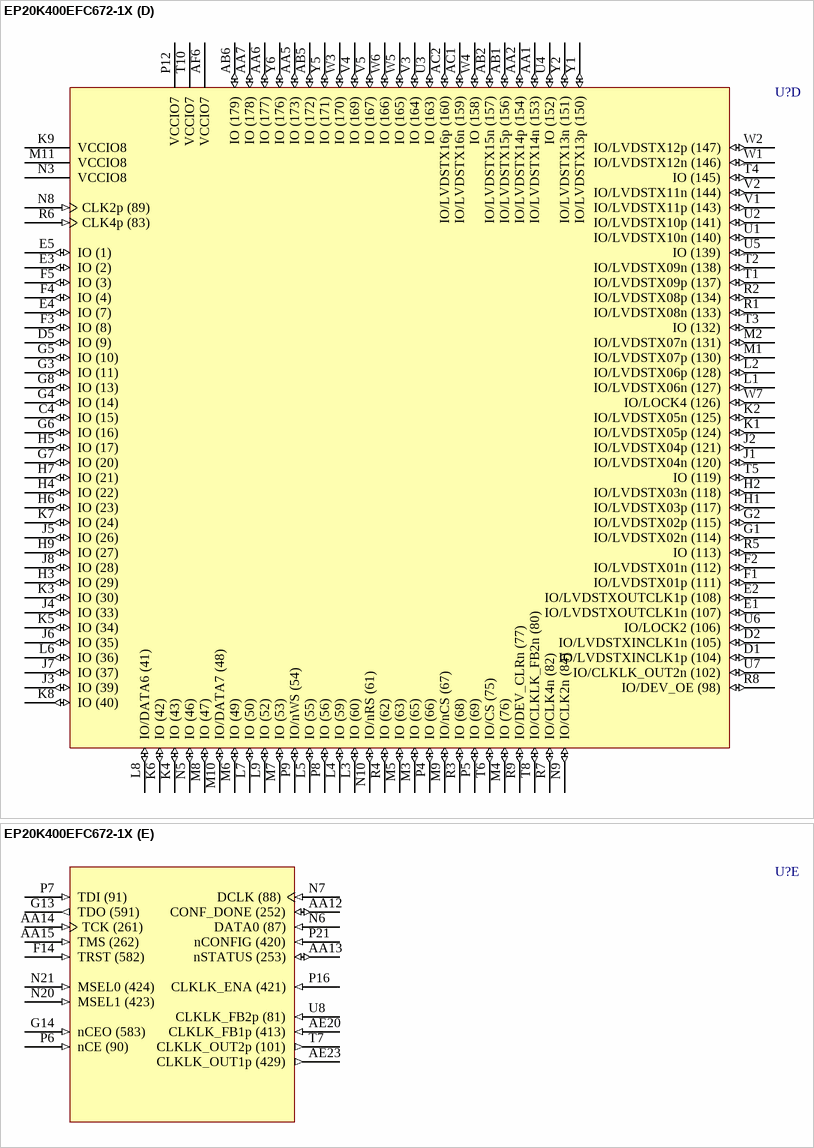
[diagram p284: symbol EP20K400EFC672-1X]

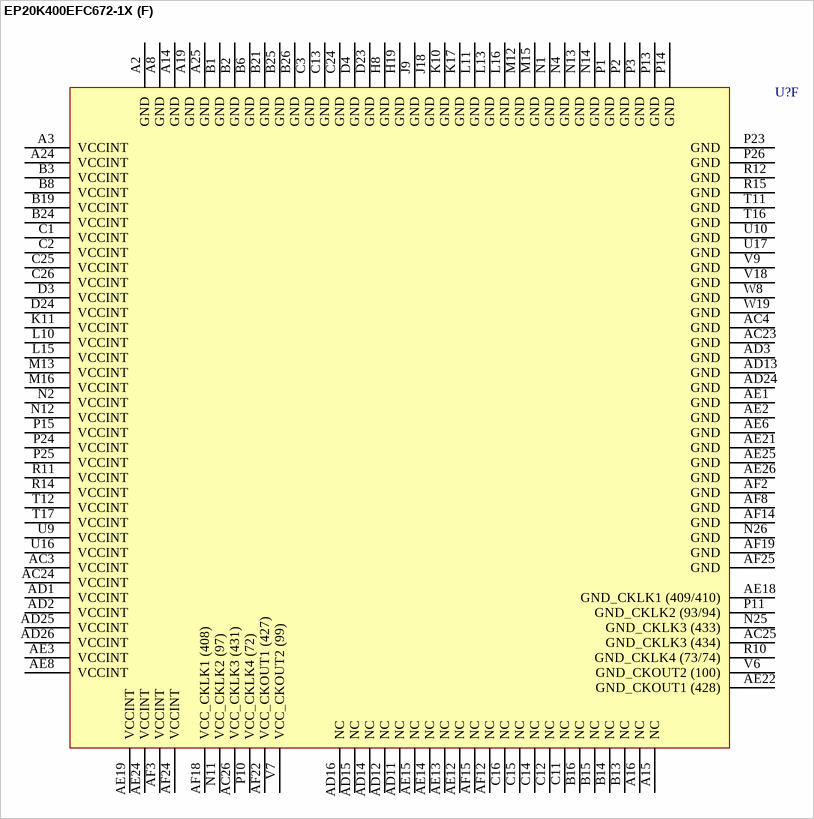
[diagram p285: symbol EP20K400EFC672-1X]